# Altium integrated library KX-9A.IntLib: 1 symbol
Pins are listed as number, name and electrical type; pins without a type are passive.

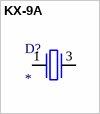
[diagram p0: symbol KX-9A]

## KX-9A
designator D?
footprint KX-9A
pins: 1, 3